# Altium footprint library POSCAP.PcbLib: 8 footprints
Each footprint in its own frame and in the unit in brackets; x right, y up, seen from the top. Pads: shape width x height; smd on the part's side, far side on the other; paste and mask are expansions set on the pad; w line width, h text height; cw(c..) or ccw(c..) is an arc to the next point about the centre after c.
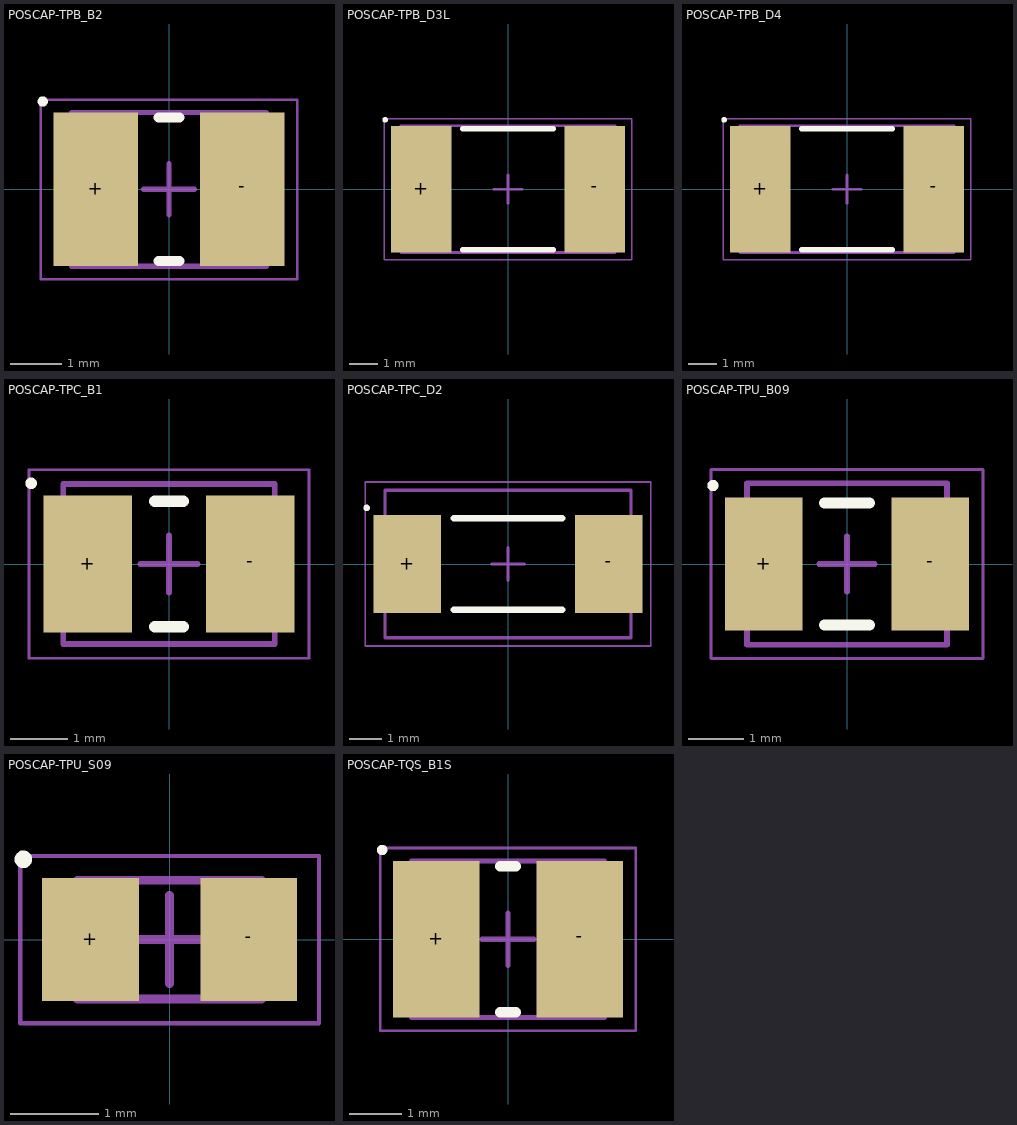
[diagram p0: the footprints below, top view; thin cyan lines are the x and y axes]

## POSCAP-TPB_B2 [mm]
height 2.1
pads (2):
  rect 1.65x3 smd: +(-1.425,0) -(1.425,0)
Top Overlay:
  circle w0.1: c-2.462,1.712 r0.05
  lines w0.2: -0.2,-1.4 0.2,-1.4 ; -0.2,1.4 0.2,1.4
Mechanical 13:
  lines w0.1: -1.9,-1.5 1.9,-1.5 1.9,1.5 -1.9,1.5 -1.9,-1.5
Mechanical 15:
  lines w0.05: -2.5,-1.75 2.5,-1.75 2.5,1.75 -2.5,1.75 -2.5,-1.75
  lines w0.1: -0.5,0 0.5,0 ; 0,-0.5 0,0.5
3D body: height 2.1, standoff 0, extent 1.1,-1.5 1.9,1.5
3D body: height 2.1, standoff 0, extent -1.9,-1.5 -1.1,1.5
3D body: height 2.1, standoff 0, extent -1.1,-1.5 1.1,1.5

## POSCAP-TPB_D3L [mm]
height 2.9
pads (2):
  rect 2.15x4.5 smd: +(-3.075,0) -(3.075,0)
Top Overlay:
  circle w0.1: c-4.362,2.462 r0.05
  lines w0.2: -1.6,-2.15 1.6,-2.15 ; -1.6,2.15 1.6,2.15
Mechanical 13:
  lines w0.1: -3.8,-2.25 -3.8,2.25 3.8,2.25 3.8,-2.25 -3.8,-2.25
Mechanical 15:
  lines w0.05: -4.4,-2.5 -4.4,2.5 4.4,2.5 4.4,-2.5 -4.4,-2.5
  lines w0.1: -0.5,0 0.5,0 ; 0,-0.5 0,0.5
3D body "POSCAP-TPB_D3L.step": height 2.9, standoff 0, extent -3.8,-2.25 3.8,2.25

## POSCAP-TPB_D4 [mm]
height 3.9
pads (2):
  rect 2.15x4.5 smd: +(-3.075,0) -(3.075,0)
Top Overlay:
  circle w0.1: c-4.362,2.462 r0.05
  lines w0.2: -1.6,-2.15 1.6,-2.15 ; -1.6,2.15 1.6,2.15
Mechanical 13:
  lines w0.1: -3.8,-2.25 -3.8,2.25 3.8,2.25 3.8,-2.25 -3.8,-2.25
Mechanical 15:
  lines w0.05: -4.4,-2.5 -4.4,2.5 4.4,2.5 4.4,-2.5 -4.4,-2.5
  lines w0.1: -0.5,0 0.5,0 ; 0,-0.5 0,0.5
3D body "POSCAP-TPB_D4.step": height 3.9, standoff 0, extent -3.8,-2.25 3.8,2.25

## POSCAP-TPC_B1 [mm] "Panasonic POSCAP TPC Series B1 Package"
height 1.1
pads (2):
  rect 1.55x2.4 smd: +(-1.425,0) -(1.425,0)
Top Overlay:
  circle w0.1: c-2.412,1.412 r0.05
  lines w0.2: -0.25,-1.1 0.25,-1.1 ; -0.25,1.1 0.25,1.1
Mechanical 13:
  lines w0.1: -1.85,-1.4 1.85,-1.4 1.85,1.4 -1.85,1.4 -1.85,-1.4
Mechanical 15:
  lines w0.05: -2.45,-1.65 2.45,-1.65 2.45,1.65 -2.45,1.65 -2.45,-1.65
  lines w0.1: -0.5,0 0.5,0 ; 0,-0.5 0,0.5
3D body "POSCAP-TPC_B1.step": height 1.1, standoff 0, extent -1.85,-1.4 1.85,1.4

## POSCAP-TPC_D2 [mm] "Panasonic POSCAP TPC Series D2 Package"
height 1.9
pads (2):
  rect 2.05x3 smd: +(-3.075,0) -(3.075,0)
Top Overlay:
  circle w0.1: c-4.312,1.712 r0.05
  lines w0.2: -1.65,-1.4 1.65,-1.4 ; -1.65,1.4 1.65,1.4
Mechanical 13:
  lines w0.1: -3.75,-2.25 -3.75,2.25 3.75,2.25 3.75,-2.25 -3.75,-2.25
Mechanical 15:
  lines w0.05: -4.35,-2.5 -4.35,2.5 4.35,2.5 4.35,-2.5 -4.35,-2.5
  lines w0.1: -0.5,0 0.5,0 ; 0,-0.5 0,0.5
3D body "POSCAP_TCP_D2.step": height 1.9, standoff 0, extent -3.75,-2.25 3.75,2.25

## POSCAP-TPU_B09 [mm] "Panasonic POSCAP TPU Series B09 Package"
height 1
pads (2):
  rect 1.4x2.4 smd: +(-1.5,0) -(1.5,0)
Top Overlay:
  circle w0.1: c-2.412,1.412 r0.05
  lines w0.2: -0.4,-1.1 0.4,-1.1 ; -0.4,1.1 0.4,1.1
Mechanical 13:
  lines w0.1: -1.8,-1.45 1.8,-1.45 1.8,1.45 -1.8,1.45 -1.8,-1.45
Mechanical 15:
  lines w0.05: -2.45,-1.7 2.45,-1.7 2.45,1.7 -2.45,1.7 -2.45,-1.7
  lines w0.1: -0.5,0 0.5,0 ; 0,-0.5 0,0.5
3D body "POSCAP-TPU_B09.step": height 1, standoff 0, extent -1.8,-1.45 1.8,1.45

## POSCAP-TPU_S09 [mm] "Panasonic POSCAP TPU Series S09 Package"
height 0.6
pads (2):
  rect 1.1x1.4 smd: +(-0.9,0) -(0.9,0)
Top Overlay:
  circle w0.1: c-1.662,0.912 r0.05
Mechanical 13:
  lines w0.1: -1.05,-0.675 1.05,-0.675 1.05,0.675 -1.05,0.675 -1.05,-0.675
Mechanical 15:
  lines w0.05: -1.7,-0.95 1.7,-0.95 1.7,0.95 -1.7,0.95 -1.7,-0.95
  lines w0.1: -0.5,0 0.5,0 ; 0,-0.5 0,0.5
3D body "POSCAP-TPU_S09.step": height 0.6, standoff 0, extent -1.05,-0.675 1.05,0.675

## POSCAP-TQS_B1S [mm] "Panasonic POSCAP TQS Series B1S Package"
height 1.2
pads (2):
  rect 1.65x3 smd: +(-1.375,0) -(1.375,0)
Top Overlay:
  circle w0.1: c-2.412,1.712 r0.05
  lines w0.2: -0.15,-1.4 0.15,-1.4 ; -0.15,1.4 0.15,1.4
Mechanical 13:
  lines w0.1: -1.85,-1.5 1.85,-1.5 1.85,1.5 -1.85,1.5 -1.85,-1.5
Mechanical 15:
  lines w0.05: -2.45,-1.75 2.45,-1.75 2.45,1.75 -2.45,1.75 -2.45,-1.75
  lines w0.1: -0.5,0 0.5,0 ; 0,-0.5 0,0.5
3D body "POSCAP-TQS_B1S.step": height 1.2, standoff 0, extent -1.85,-1.5 1.85,1.5